# Altium footprint library FootPrintLib_6.PcbLib: 588 footprints (part 28 of 37)
Each footprint in its own frame and in the unit in brackets; x right, y up, seen from the top. Pads: shape width x height; smd on the part's side, far side on the other; paste and mask are expansions set on the pad; w line width, h text height; cw(c..) or ccw(c..) is an arc to the next point about the centre after c.
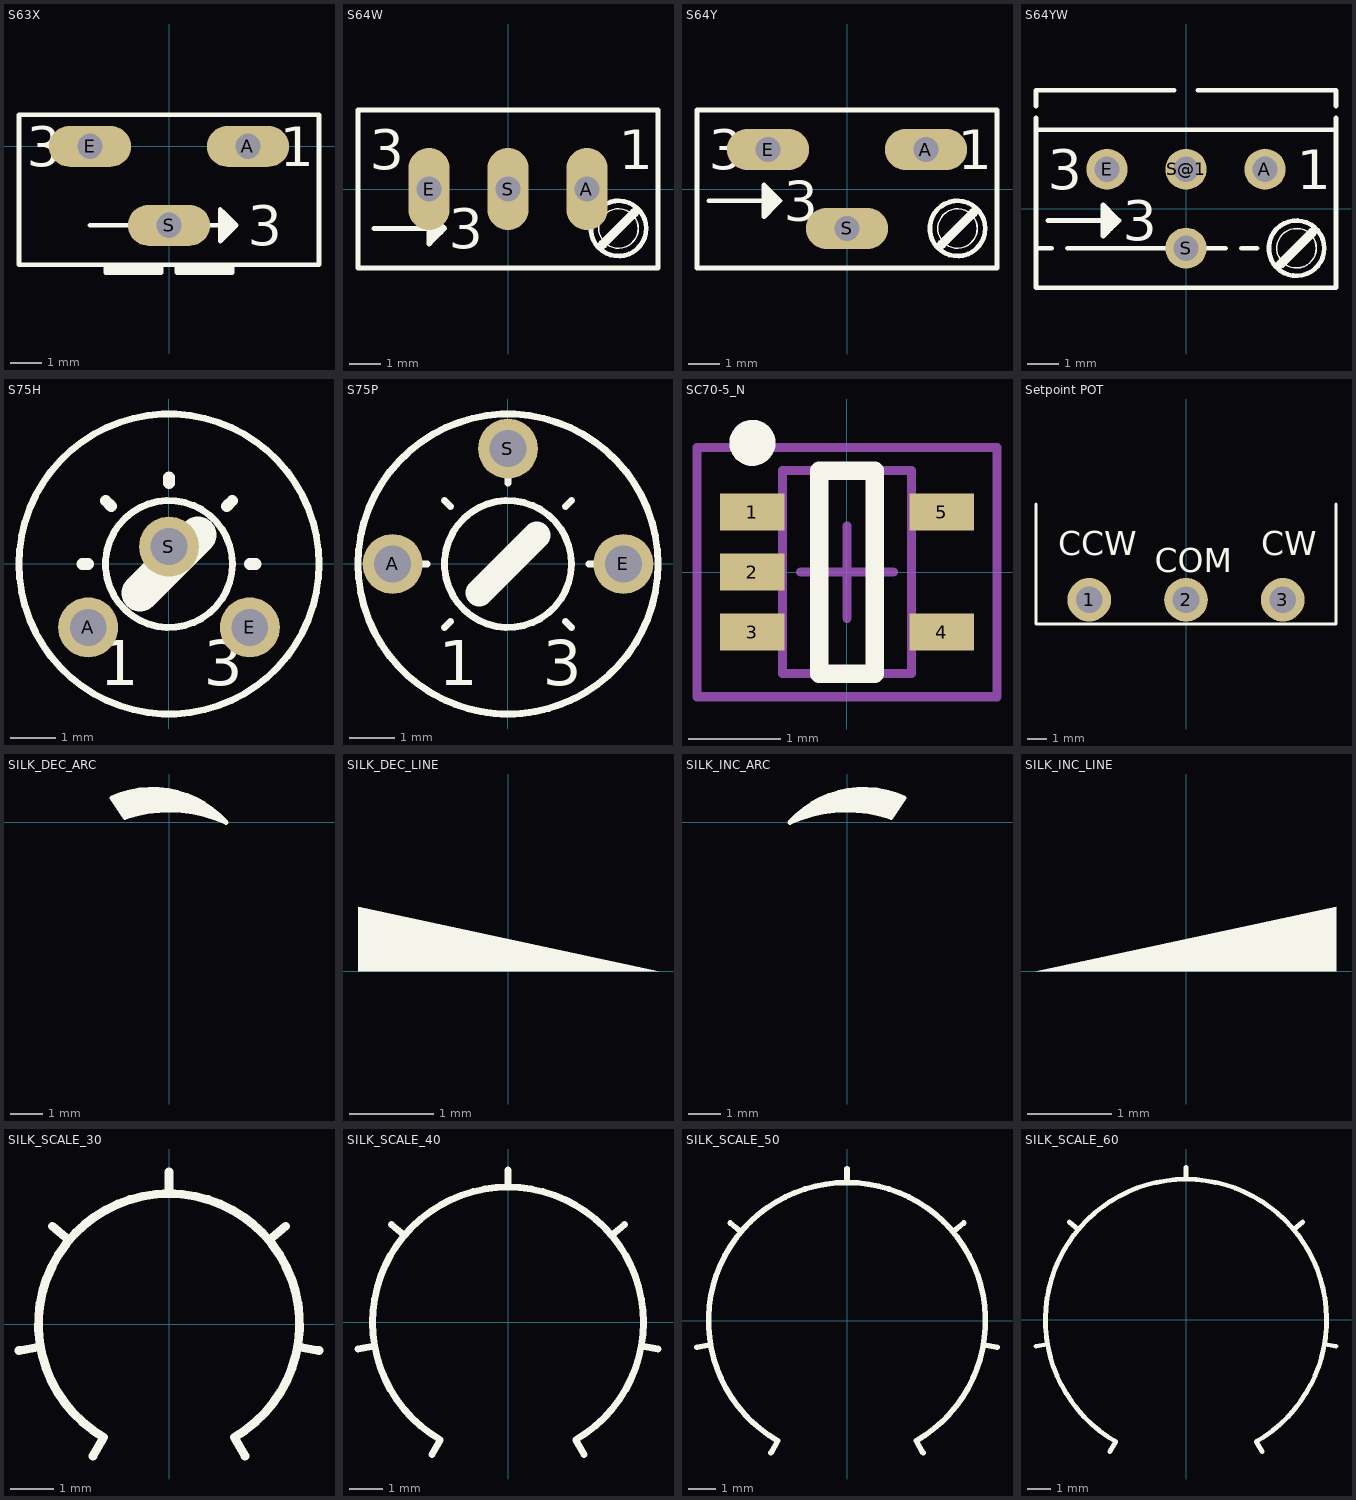
[diagram p27: the footprints below, top view; thin cyan lines are the x and y axes]

## S63X [mil]
pads (3):
  oval 104x52 hole 32: A(100,0) E(-100,0) S(0,-100)
Top Overlay:
  lines w6: -100,-100 70,-100 ; -80,-155 -80,-160 -10,-160 -10,-155 ; -80,-155 -10,-155 ; -80,-155 -80,-150 ; -80,-150 -10,-150 ; -80,-150 -190,-150 -190,40 190,40 190,-150 80,-150 ; -10,-155 -10,-150 ; -10,-150 10,-150 ; 10,-155 80,-155 ; 10,-155 10,-150 ; 10,-155 10,-160 80,-160 80,-155 ; 10,-150 80,-150 ; 70,-115 65,-120 65,-80 70,-85 ; 70,-115 70,-100 ; 70,-115 75,-110 ; 70,-100 70,-85 ; 70,-100 85,-100 ; 70,-85 75,-90 ; 75,-110 80,-105 ; 75,-110 75,-90 ; 75,-90 80,-95 ; 80,-155 80,-150 ; 80,-105 80,-95 ; 80,-105 85,-100 ; 80,-95 85,-100
  text "3" at 100,-125 h50
  text "1" at 140,-25 h50
  text "3" at -180,-25 h50

## S64W [mil]
pads (3):
  oval 52x104 hole 32: A(100,0) E(-100,0) S(0,0)
Top Overlay:
  circle w2: c140,-50 r25
  circle w6: c140,-50 r35
  lines w6: -170,-50 -95,-50 ; -95,-65 -100,-70 -100,-30 -95,-35 ; -95,-65 -95,-50 ; -95,-65 -90,-60 ; -95,-50 -95,-35 ; -95,-50 -80,-50 ; -95,-35 -90,-40 ; -90,-60 -85,-55 ; -90,-60 -90,-40 ; -90,-40 -85,-45 ; -85,-55 -85,-45 ; -85,-55 -80,-50 ; -85,-45 -80,-50 ; -190,-100 -190,100 190,100 190,-100 -190,-100
  lines w12: 120,-70 160,-30
  text "3" at -75,-75 h50
  text "1" at 140,25 h50
  text "3" at -175,25 h50
3D body "SW3dPS-bourns 3296W pot.STEP": height 454.72, standoff -251.97, extent -187.19,-96 188,94.2

## S64Y [mil]
pads (3):
  oval 104x52 hole 32: A(100,50) E(-100,50) S(0,-50)
Top Overlay:
  circle w2: c140,-50 r25
  circle w6: c140,-50 r35
  lines w6: -175,-15 -100,-15 ; -100,-30 -105,-35 -105,5 -100,0 ; -100,-30 -100,-15 ; -100,-30 -95,-25 ; -100,-15 -100,0 ; -100,-15 -85,-15 ; -100,0 -95,-5 ; -95,-25 -90,-20 ; -95,-25 -95,-5 ; -95,-5 -90,-10 ; -90,-20 -90,-10 ; -90,-20 -85,-15 ; -90,-10 -85,-15 ; -190,-100 -190,100 190,100 190,-100 -190,-100
  lines w12: 120,-70 160,-30
  text "3" at -80,-40 h50
  text "1" at 140,25 h50
  text "3" at -175,25 h50
3D body "SW3dPS-bourns 3296Y pot.STEP": height 454.72, standoff -251.97, extent -187.6,-95 187.6,95.19

## S64YW [mil]
pads (4):
  round 52 hole 32: A(100,50) E(-100,50) S(0,-50) S@1(0,50)
Top Overlay:
  circle w2: c140,-50 r25
  circle w6: c140,-50 r35
  lines w6: -190,115 -190,100 ; -190,130 -190,150 -15,150 ; -175,-15 -100,-15 ; -170,-50 -190,-50 ; -150,-50 -40,-50 40,-50 ; 15,150 190,150 190,130 ; 35,-50 50,-50 ; 70,-50 90,-50 ; 190,115 190,100 ; -190,-50 -190,100 ; -190,-50 -190,-100 190,-100 190,100 ; -190,100 190,100 ; -100,-30 -105,-35 -105,5 -100,0 ; -100,-30 -100,-15 ; -100,-30 -95,-25 ; -100,-15 -100,0 ; -100,-15 -85,-15 ; -100,0 -95,-5 ; -95,-25 -90,-20 ; -95,-25 -95,-5 ; -95,-5 -90,-10 ; -90,-20 -90,-10 ; -90,-20 -85,-15 ; -90,-10 -85,-15
  lines w12: 120,-70 160,-30
  text "3" at -80,-40 h50
  text "1" at 140,25 h50
  text "3" at -175,25 h50

## S75H [mil]
pads (3):
  round 52 hole 32: A(-70,-55) E(70,-55) S(0,15)
Top Overlay:
  circle w6: c0,0 r130
  circle w6: c0,0 r55
  lines w10: -75,0 -70,0 ; -55,-55 -50,-50 ; -55,55 -50,50 ; 0,70 0,75 ; 50,-50 55,-55 ; 50,50 55,55 ; 70,0 75,0
  lines w32: -25,-25 25,25
  text "3" at 30,-105 h39
  text "1" at -60,-105 h39

## S75P [mil]
pads (3):
  round 52 hole 32: A(-100,0) E(100,0) S(0,100)
Top Overlay:
  circle w6: c0,0 r130
  circle w6: c0,0 r55
  lines w6: -127.48,-25.5 ccw(c0,0) 0,-130 ccw(c0,0) 127.66,-24.55 ; -127.08,26.48 cw(c0,0) -35,125 ; -75,0 -70,0 ; -55,-55 -50,-50 ; -55,55 -50,50 ; 0,70 0,75 ; 35,125 cw(c0,0) 127.08,26.48 ; 50,-50 55,-55 ; 50,50 55,55 ; 70,0 75,0
  lines w24: -25,-25 25,25
  text "3" at 30,-105 h39
  text "1" at -60,-105 h39

## SC70-5_N [mm]
pads (5):
  rect 0.7x0.4 smd: 1(-1.025,0.65) 2(-1.025,0) 3(-1.025,-0.65) 4(1.025,-0.65) 5(1.025,0.65)
Top Overlay:
  circle w0.25: c-1.025,1.4 r0.125
  lines w0.2: -0.3,-1.1 0.3,-1.1 0.3,1.1 -0.3,1.1 -0.3,-1.1
Mechanical 13:
  lines w0.1: -0.7,-1.1 -0.7,1.1 0.7,1.1 0.7,-1.1 -0.7,-1.1
Mechanical 15:
  lines w0.1: -0.5,0 0.5,0 ; 0,-0.5 0,0.5 ; -1.625,-1.35 -1.625,1.35 1.625,1.35 1.625,-1.35 -1.625,-1.35
3D body "User Library-SC70-5.STEP": height 0.93, standoff -0.04, extent -1.1,-1 1.1,1

## Setpoint POT [mil]
pads (3):
  round 90 hole 55: 1(-200,-500) 2(0,-500) 3(200,-500)
Top Overlay:
  lines w7: -310,-302.12 -310,-550 310,-550 310,-302.12
  text "COM" at -65,-443 h50
  text "CW" at 155,-408 h50
  text "CCW" at -264,-408 h50
3D body "POT.STEP": height 118.11, standoff -851.89, extent -309.99,-1308.34 310.01,-302.12
3D body "volome cover2.STEP": height 810.43, standoff 136.78, extent -294.09,-1413.39 303.15,-625.98

## SILK_DEC_ARC [mm]
Top Overlay:
  region: 1.778,0 1.592,0.078 1.212,0.208 0.82,0.303 0.422,0.36 0.02,0.381 -0.382,0.364 -0.781,0.31 -1.173,0.219 -1.366,0.16 -1.374,0.155 -1.778,0.762 -1.555,0.861 -1.085,0.986 -0.6,1.036 -0.114,1.01 0.362,0.908 0.816,0.733 1.238,0.489 1.615,0.181
  lines w0.152: -1.374,0.155 -1.778,0.762 cw(c-0.524,-2.064) 1.778,0 ccw(c0,-3.958) -1.366,0.16

## SILK_DEC_LINE [mm]
Top Overlay:
  region: 1.778,0 -1.778,0 -1.778,0.762

## SILK_INC_ARC [mm]
Top Overlay:
  region: -1.778,0 -1.592,0.078 -1.212,0.208 -0.82,0.303 -0.422,0.36 -0.02,0.381 0.382,0.364 0.781,0.31 1.173,0.219 1.366,0.16 1.374,0.155 1.778,0.762 1.555,0.861 1.085,0.986 0.6,1.036 0.114,1.01 -0.362,0.908 -0.816,0.733 -1.238,0.489 -1.615,0.181
  lines w0.152: 1.366,0.16 ccw(c0,-3.958) -1.778,0 cw(c0.524,-2.064) 1.778,0.762 1.374,0.155

## SILK_INC_LINE [mm]
Top Overlay:
  region: -1.778,0 1.778,0 1.778,0.762

## SILK_SCALE_30 [mm]
Top Overlay:
  lines w0.203: -3.447,-0.608 -2.954,-0.521 ; -2.681,2.25 -2.298,1.928 ; -1.75,-3.031 -1.5,-2.598 cw(c0,0) 1.5,-2.598 1.75,-3.031 ; 0,3 0,3.5 ; 2.298,1.928 2.681,2.25 ; 2.954,-0.521 3.447,-0.608

## SILK_SCALE_40 [mm]
Top Overlay:
  lines w0.203: -4.432,-0.781 -3.939,-0.695 ; -3.447,2.893 -3.064,2.571 ; -2.25,-3.897 -2,-3.464 cw(c0,0) 2,-3.464 2.25,-3.897 ; 0,4 0,4.5 ; 3.064,2.571 3.447,2.893 ; 3.939,-0.695 4.432,-0.781

## SILK_SCALE_50 [mm]
Top Overlay:
  lines w0.203: -5.416,-0.955 -4.924,-0.868 ; -4.213,3.535 -3.83,3.214 ; -2.75,-4.763 -2.5,-4.33 cw(c0,0) 2.5,-4.33 2.75,-4.763 ; 0,5 0,5.5 ; 3.83,3.214 4.213,3.535 ; 4.924,-0.868 5.416,-0.955

## SILK_SCALE_60 [mm]
Top Overlay:
  lines w0.203: -6.401,-1.129 -5.909,-1.042 ; -4.979,4.178 -4.596,3.857 ; -3.25,-5.629 -3,-5.196 cw(c0,0) 3,-5.196 3.25,-5.629 ; 0,6 0,6.5 ; 4.596,3.857 4.979,4.178 ; 5.909,-1.042 6.401,-1.129